# EAGLE library part VS1053 (library aaaacustom)
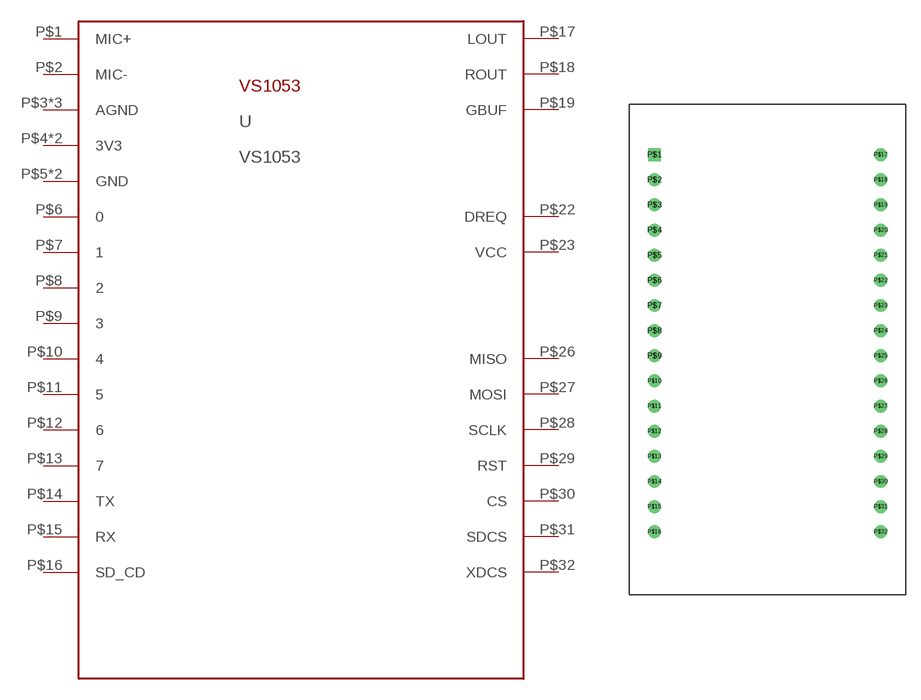
[diagram p2: symbol with the pads of VS1053; footprint VS1053]

Designator prefix -

## VS1053  [VS1053]
P$1  MIC+
P$2  MIC-
P$3  AGND
P$4  3V3
P$5  GND
P$6  0
P$7  1
P$8  2
P$9  3
P$10  4
P$11  5
P$12  6
P$13  7
P$14  TX
P$15  RX
P$16  SD_CD
P$17  LOUT
P$18  ROUT
P$19  GBUF
P$20  AGND
P$21  AGND
P$22  DREQ
P$23  VCC
P$24  3V3
P$25  GND
P$26  MISO
P$27  MOSI
P$28  SCLK
P$29  RST
P$30  CS
P$31  SDCS
P$32  XDCS

## Footprint VS1053 (pad centres in mm)
drill 0.8 square: P$1 0,0
drill 0.8: P$2 0,-2.54; P$3 0,-5.08; P$4 0,-7.62; P$5 0,-10.16; P$6 0,-12.7; P$7 0,-15.24; P$8 0,-17.78; P$9 0,-20.32; P$10 0,-22.86; P$11 0,-25.4; P$12 0,-27.94; P$13 0,-30.48; P$14 0,-33.02; P$15 0,-35.56; P$16 0,-38.1; P$17 22.86,0; P$18 22.86,-2.54; P$19 22.86,-5.08; P$20 22.86,-7.62; P$21 22.86,-10.16; P$22 22.86,-12.7; P$23 22.86,-15.24; P$24 22.86,-17.78; P$25 22.86,-20.32; P$26 22.86,-22.86; P$27 22.86,-25.4; P$28 22.86,-27.94; P$29 22.86,-30.48; P$30 22.86,-33.02; P$31 22.86,-35.56; P$32 22.86,-38.1